# Altium schematic symbol library Discrete_Diodes_TVS_GOST.SchLib: 5 symbols
Pins are listed as number, name and electrical type; pins without a type are passive.

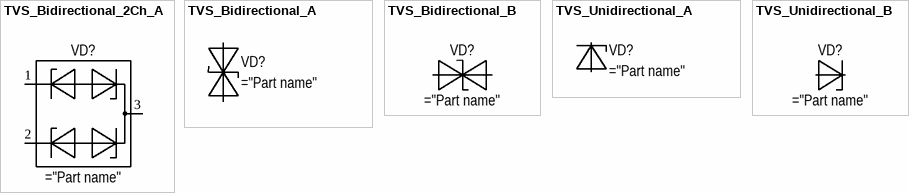
[diagram p0: symbols TVS_Bidirectional_2Ch_A to TVS_Unidirectional_B]

## TVS_Bidirectional_2Ch_A
designator VD?
pins: 1, 2, 3

## TVS_Bidirectional_A
designator VD?
pins: 1, 2

## TVS_Bidirectional_B
designator VD?
pins: 1, 2

## TVS_Unidirectional_A
designator VD?
pins: 1, 2

## TVS_Unidirectional_B
designator VD?
pins: 1, 2